# EAGLE library part ARIA (library BaseApp)
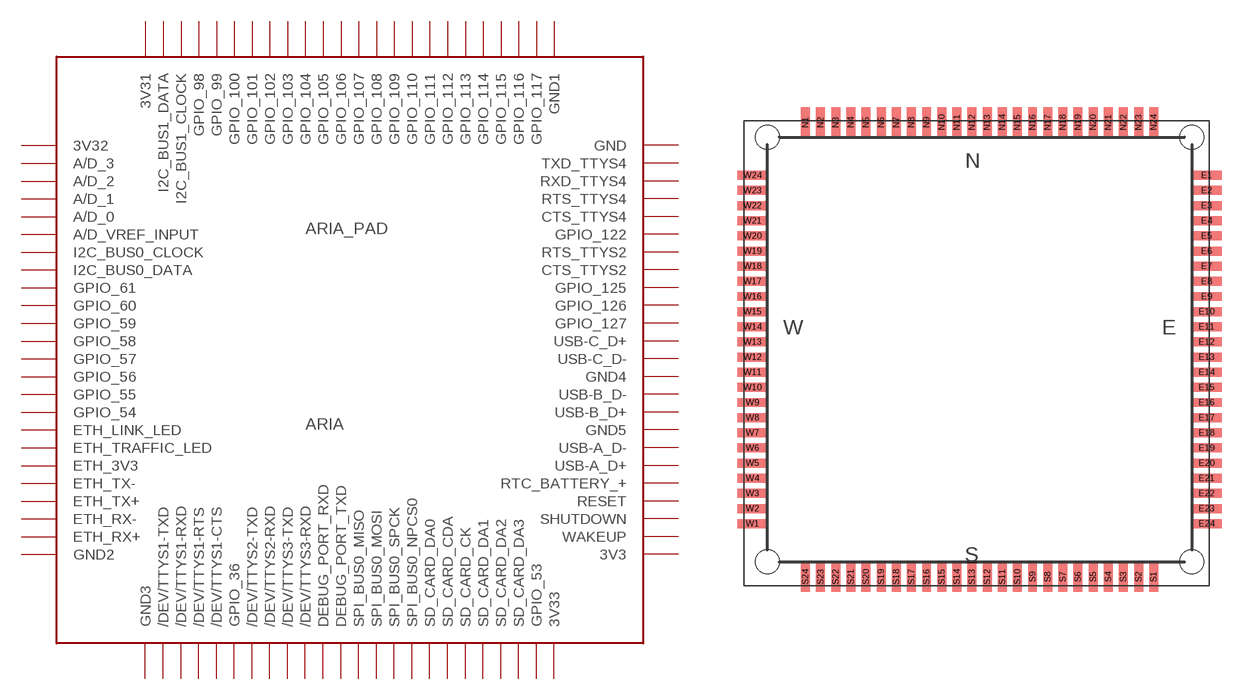
[diagram p9: symbol with the pads of ARIA_PAD; footprint ARIA_PAD]

Designator prefix ARIA_PAD

## ARIA  [ARIA_PAD]
E1  GND
E2  TXD_TTYS4
E3  RXD_TTYS4
E4  RTS_TTYS4
E5  CTS_TTYS4
E6  GPIO_122
E7  RTS_TTYS2
E8  CTS_TTYS2
E9  GPIO_125
E10  GPIO_126
E11  GPIO_127
E12  USB-C_D+
E13  USB-C_D-
E14  GND4
E15  USB-B_D-
E16  USB-B_D+
E17  GND5
E18  USB-A_D-
E19  USB-A_D+
E20  RTC_BATTERY_+
E21  RESET
E22  SHUTDOWN
E23  WAKEUP
E24  3V3
N1  3V31
N2  I2C_BUS1_DATA
N3  I2C_BUS1_CLOCK
N4  GPIO_98
N5  GPIO_99
N6  GPIO_100
N7  GPIO_101
N8  GPIO_102
N9  GPIO_103
N10  GPIO_104
N11  GPIO_105
N12  GPIO_106
N13  GPIO_107
N14  GPIO_108
N15  GPIO_109
N16  GPIO_110
N17  GPIO_111
N18  GPIO_112
N19  GPIO_113
N20  GPIO_114
N21  GPIO_115
N22  GPIO_116
N23  GPIO_117
N24  GND1
S1  3V33
S2  GPIO_53
S3  SD_CARD_DA3
S4  SD_CARD_DA2
S5  SD_CARD_DA1
S6  SD_CARD_CK
S7  SD_CARD_CDA
S8  SD_CARD_DA0
S9  SPI_BUS0_NPCS0
S10  SPI_BUS0_SPCK
S11  SPI_BUS0_MOSI
S12  SPI_BUS0_MISO
S13  DEBUG_PORT_TXD
S14  DEBUG_PORT_RXD
S15  /DEV/TTYS3-RXD
S16  /DEV/TTYS3-TXD
S17  /DEV/TTYS2-RXD
S18  /DEV/TTYS2-TXD
S19  GPIO_36
S20  /DEV/TTYS1-CTS
S21  /DEV/TTYS1-RTS
S22  /DEV/TTYS1-RXD
S23  /DEV/TTYS1-TXD
S24  GND3
W1  GND2
W2  ETH_RX+
W3  ETH_RX-
W4  ETH_TX+
W5  ETH_TX-
W6  ETH_3V3
W7  ETH_TRAFFIC_LED
W8  ETH_LINK_LED
W9  GPIO_54
W10  GPIO_55
W11  GPIO_56
W12  GPIO_57
W13  GPIO_58
W14  GPIO_59
W15  GPIO_60
W16  GPIO_61
W17  I2C_BUS0_DATA
W18  I2C_BUS0_CLOCK
W19  A/D_VREF_INPUT
W20  A/D_0
W21  A/D_1
W22  A/D_2
W23  A/D_3
W24  3V32

## Footprint ARIA_PAD (pad centres in mm)
smd 2.5 x 0.75: E1 -0.195,34.405; E2 -0.195,33.135; E3 -0.195,31.865; E4 -0.195,30.595; E5 -0.195,29.325; E6 -0.195,28.055; E7 -0.195,26.785; E8 -0.195,25.515; E9 -0.195,24.245; E10 -0.195,22.975; E11 -0.195,21.705; E12 -0.195,20.435; E13 -0.195,19.165; E14 -0.195,17.895; E15 -0.195,16.625; E16 -0.195,15.355; E17 -0.195,14.085; E18 -0.195,12.815; E19 -0.195,11.545; E20 -0.195,10.275; E21 -0.195,9.005; E22 -0.195,7.735; E23 -0.195,6.465; E24 -0.195,5.195; W1 -38.295,5.195; W2 -38.295,6.465; W3 -38.295,7.735; W4 -38.295,9.005; W5 -38.295,10.275; W6 -38.295,11.545; W7 -38.295,12.815; W8 -38.295,14.085; W9 -38.295,15.355; W10 -38.295,16.625; W11 -38.295,17.895; W12 -38.295,19.165; W13 -38.295,20.435; W14 -38.295,21.705; W15 -38.295,22.975; W16 -38.295,24.245; W17 -38.295,25.515; W18 -38.295,26.785; W19 -38.295,28.055; W20 -38.295,29.325; W21 -38.295,30.595; W22 -38.295,31.865; W23 -38.295,33.135; W24 -38.295,34.405
smd 0.75 x 2.5: N1 -33.85,38.85; N2 -32.58,38.85; N3 -31.31,38.85; N4 -30.04,38.85; N5 -28.77,38.85; N6 -27.5,38.85; N7 -26.23,38.85; N8 -24.96,38.85; N9 -23.69,38.85; N10 -22.42,38.85; N11 -21.15,38.85; N12 -19.88,38.85; N13 -18.61,38.85; N14 -17.34,38.85; N15 -16.07,38.85; N16 -14.8,38.85; N17 -13.53,38.85; N18 -12.26,38.85; N19 -10.99,38.85; N20 -9.72,38.85; N21 -8.45,38.85; N22 -7.18,38.85; N23 -5.91,38.85; N24 -4.64,38.85; S1 -4.64,0.75; S2 -5.91,0.75; S3 -7.18,0.75; S4 -8.45,0.75; S5 -9.72,0.75; S6 -10.99,0.75; S7 -12.26,0.75; S8 -13.53,0.75; S9 -14.8,0.75; S10 -16.07,0.75; S11 -17.34,0.75; S12 -18.61,0.75; S13 -19.88,0.75; S14 -21.15,0.75; S15 -22.42,0.75; S16 -23.69,0.75; S17 -24.96,0.75; S18 -26.23,0.75; S19 -27.5,0.75; S20 -28.77,0.75; S21 -30.04,0.75; S22 -31.31,0.75; S23 -32.58,0.75; S24 -33.85,0.75
hole 2 at -37.045,2
hole 2 at -1.445,2
hole 2 at -1.445,37.6
hole 2 at -37.045,37.6